# Altium footprint library Daxxn_Packages.PcbLib: 84 footprints (part 4 of 6)
Each footprint in its own frame and in the unit in brackets; x right, y up, seen from the top. Pads: shape width x height; smd on the part's side, far side on the other; paste and mask are expansions set on the pad; w line width, h text height; cw(c..) or ccw(c..) is an arc to the next point about the centre after c.
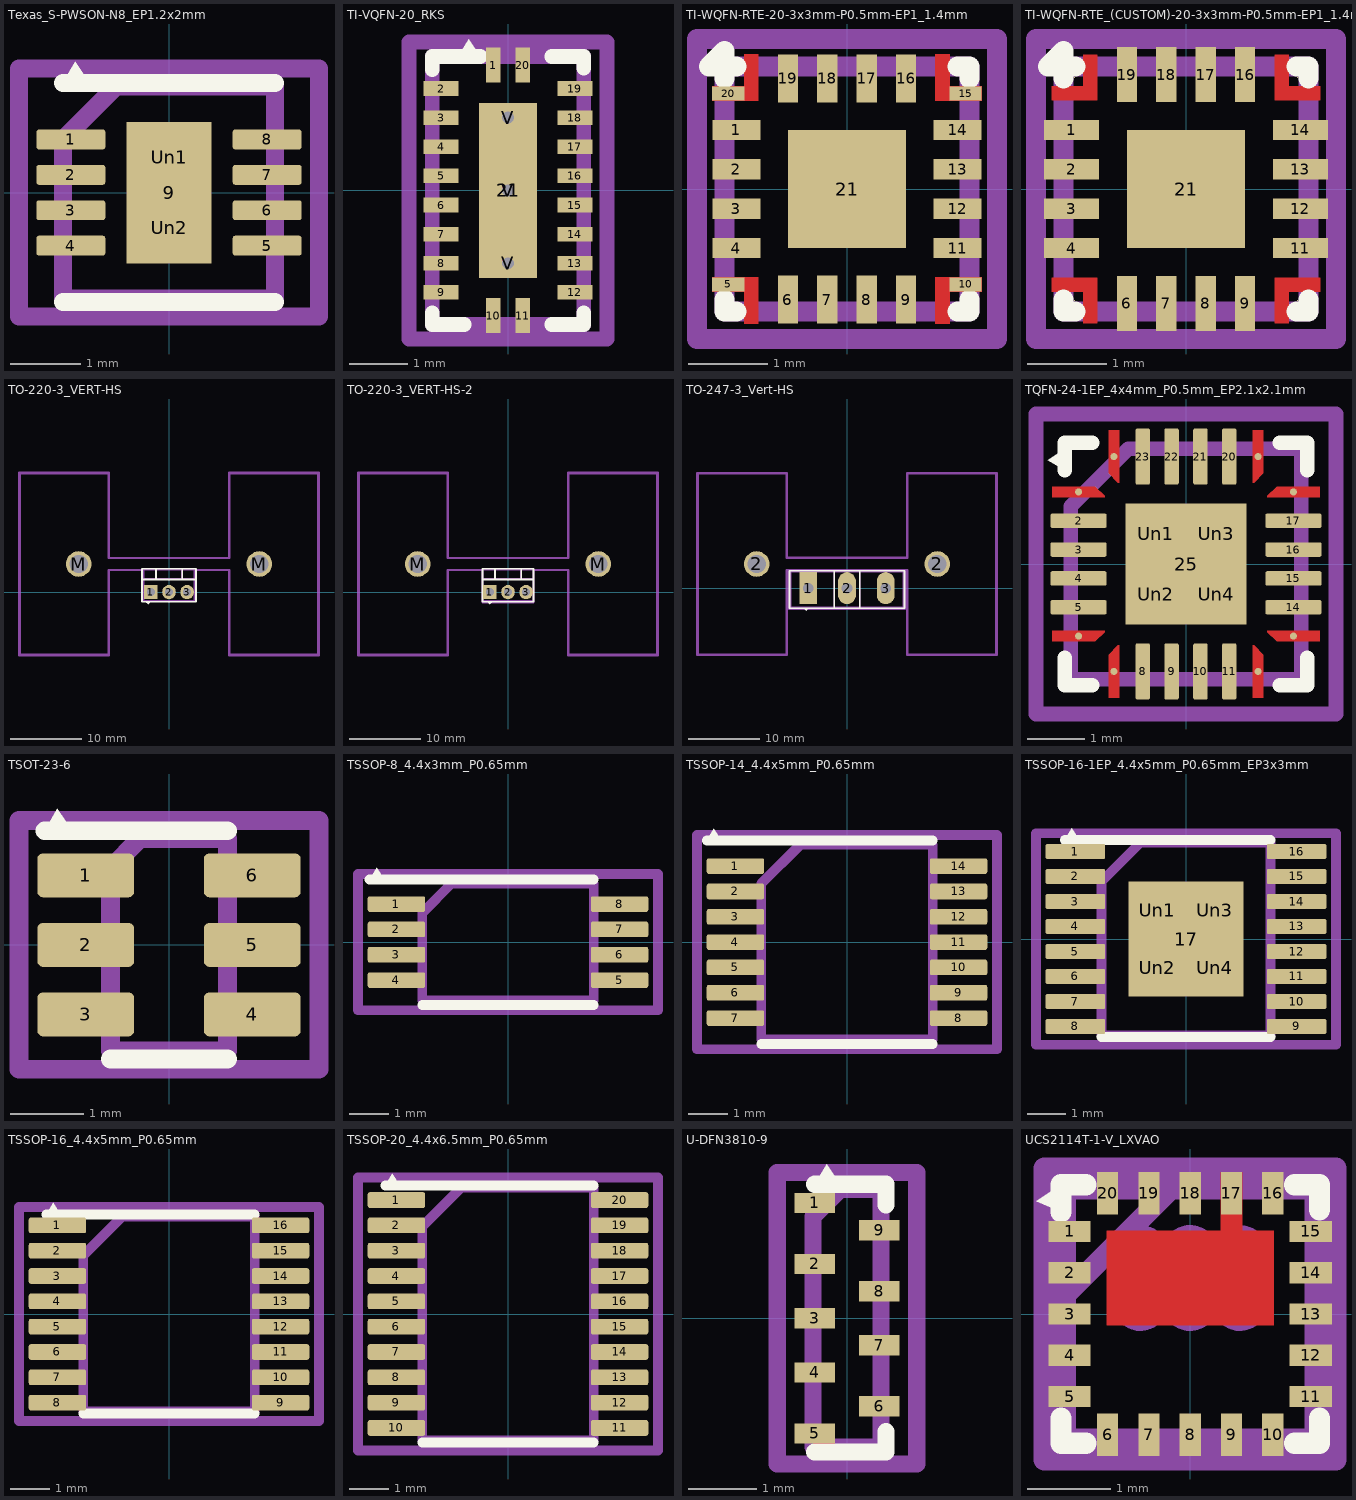
[diagram p3: the footprints below, top view; thin cyan lines are the x and y axes]

## Texas_S-PWSON-N8_EP1.2x2mm [mm]
pads (11):
  rrect25% 0.975x0.28 smd: 1(-1.388,0.75) 2(-1.388,0.25) 3(-1.388,-0.25) 4(-1.388,-0.75) 5(1.388,-0.75) 6(1.388,-0.25) 7(1.388,0.25) 8(1.388,0.75)
  rect 1.2x2 smd: 9(0,0)
  rrect25% 0.97x0.81 on Top Paste: Un1(0,0.5) Un2(0,-0.5)
F.SilkS:
  region: -1.125,1.55 -1.5,1.55 -1.325,1.85
  lines w0.254: -1.5,-1.55 1.5,-1.55 ; -1.5,1.55 1.5,1.55
F.CrtYd:
  lines w0.254: -2.12,-1.75 -2.12,1.75 2.12,1.75 2.12,-1.75 -2.12,-1.75
F.Fab:
  lines w0.254: -1.5,-1.5 -1.5,0.75 -0.75,1.5 1.5,1.5 1.5,-1.5 -1.5,-1.5
  text "'.Designator'" at -1.037,-0.235 h0.25

## TI-VQFN-20_RKS [mm]
pads (24):
  rect 0.25x0.6 smd: 1(-0.25,2.15) 10(-0.25,-2.15) 11(0.25,-2.15) 20(0.25,2.15)
  rect 0.6x0.25 smd: 2(-1.15,1.75) 3(-1.15,1.25) 4(-1.15,0.75) 5(-1.15,0.25) 6(-1.15,-0.25) 7(-1.15,-0.75) 8(-1.15,-1.25) 9(-1.15,-1.75) 12(1.15,-1.75) 13(1.15,-1.25) 14(1.15,-0.75) 15(1.15,-0.25) 16(1.15,0.25) 17(1.15,0.75) 18(1.15,1.25) 19(1.15,1.75)
  rect 1x3 smd: 21(0,0)
  round 0.5 hole 0.203: V(0,-1.25) V(0,0) V(0,1.25)
F.SilkS:
  region: -0.475,2.3 -0.85,2.3 -0.675,2.6
  lines w0.254: -1.3,-2.1 -1.3,-2.3 -0.75,-2.3 ; -1.3,2.075 -1.3,2.3 -0.475,2.3 ; 0.75,-2.3 1.3,-2.3 1.3,-2.1 ; 0.75,2.3 1.3,2.3 1.3,2.1
F.Paste:
  region: 0.4,0.2 -0.4,0.2 -0.4,1.2 0.4,1.2
  region: 0.4,-1.2 -0.4,-1.2 -0.4,-0.2 0.4,-0.2
  lines w0.254: -0.4,-1.2 -0.4,-0.2 0.4,-0.2 0.4,-1.2 -0.4,-1.2 ; -0.4,0.2 -0.4,1.2 0.4,1.2 0.4,0.2 -0.4,0.2
F.CrtYd:
  lines w0.254: -1.7,-2.55 -1.7,2.55 1.7,2.55 1.7,-2.55 -1.7,-2.55
F.Fab:
  lines w0.254: -1.3,-2.3 -1.3,2.3 1.3,2.3 1.3,-2.3 -1.3,-2.3
  text "'.Designator'" at -0.065,-1.037 h0.25

## TI-WQFN-RTE-20-3x3mm-P0.5mm-EP1_1.4mm [mil]
pads (21):
  rect 24x10 smd: 1(-55.12,29.53) 2(-55.12,9.84) 3(-55.12,-9.84) 4(-55.12,-29.53) 11(55.12,-29.53) 12(55.12,-9.84) 13(55.12,9.84) 14(55.12,29.53)
  rect 16x7 smd: 5(-59.24,-47.62) 10(59.12,-47.62) 15(59.12,47.62) 20(-59.24,47.62)
  rect 10x24 smd: 6(-29.53,-55.12) 7(-9.84,-55.12) 8(9.84,-55.12) 9(29.53,-55.12) 16(29.53,55.12) 17(9.84,55.12) 18(-9.84,55.12) 19(-29.53,55.12)
  rect 59x59 smd: 21(0,0)
F.Cu:
  region: -44.24,44.12 -67.24,44.12 -67.24,51.12 -51.24,51.12 -51.24,67.12 -44.24,67.12
  region: -44.24,-44.12 -44.24,-67.12 -51.24,-67.12 -51.24,-51.12 -67.24,-51.12 -67.24,-44.12
  region: 51.12,51.12 67.12,51.12 67.12,44.12 44.12,44.12 44.12,67.12 51.12,67.12
  region: 67.12,-51.12 51.12,-51.12 51.12,-67.12 44.12,-67.12 44.12,-44.12 67.12,-44.12
F.SilkS:
  lines w10: -61.02,-55.12 -61.02,-61.02 -55.12,-61.02 ; -61.02,55.12 -61.02,61.02 ; -55.12,61.02 -61.02,61.02 ; 55.12,-61.02 61.02,-61.02 61.02,-55.12 ; 55.12,61.02 61.02,61.02 61.02,55.12 ; -61.02,61.02 -68.9,61.02 -61.02,68.9 -61.02,61.02
F.Paste:
  region: 23.62,-23.62 -23.62,-23.62 -23.62,23.62 23.62,23.62
  region: -44.24,44.12 -67.24,44.12 -67.24,51.12 -51.24,51.12 -51.24,67.12 -44.24,67.12
  region: -44.24,-44.12 -44.24,-67.12 -51.24,-67.12 -51.24,-51.12 -67.24,-51.12 -67.24,-44.12
  region: 51.12,51.12 67.12,51.12 67.12,44.12 44.12,44.12 44.12,67.12 51.12,67.12
  region: 67.12,-51.12 51.12,-51.12 51.12,-67.12 44.12,-67.12 44.12,-44.12 67.12,-44.12
  lines w10: -23.62,-23.62 -23.62,23.62 23.62,23.62 23.62,-23.62 -23.62,-23.62
F.Mask:
  region: -44.24,44.12 -67.24,44.12 -67.24,51.12 -51.24,51.12 -51.24,67.12 -44.24,67.12
  region: -44.24,-44.12 -44.24,-67.12 -51.24,-67.12 -51.24,-51.12 -67.24,-51.12 -67.24,-44.12
  region: 51.12,51.12 67.12,51.12 67.12,44.12 44.12,44.12 44.12,67.12 51.12,67.12
  region: 67.12,-51.12 51.12,-51.12 51.12,-67.12 44.12,-67.12 44.12,-44.12 67.12,-44.12
F.CrtYd:
  lines w10: -74.8,-74.8 -74.8,74.8 74.8,74.8 74.8,-74.8 -74.8,-74.8
F.Fab:
  lines w10: -61,-61 -61,61 61,61 61,-61 -61,-61
  text "*" at -60.55,10.41 h39.37
  text "'.Designator'" at -40.81,6.49 h9.84

## TI-WQFN-RTE_(CUSTOM)-20-3x3mm-P0.5mm-EP1_1.4mm [mm]
pads (21):
  rect 0.7x0.254 smd: 1(-1.45,0.75) 2(-1.45,0.25) 3(-1.45,-0.25) 4(-1.45,-0.75) 11(1.45,-0.75) 12(1.45,-0.25) 13(1.45,0.25) 14(1.45,0.75)
  rect 0.001x0.001 smd: 5(-1.412,-1.412) 10(1.412,-1.412) 15(1.412,1.412) 20(-1.412,1.412)
  rect 0.254x0.7 smd: 6(-0.75,-1.45) 7(-0.25,-1.45) 8(0.25,-1.45) 9(0.75,-1.45) 16(0.75,1.45) 17(0.25,1.45) 18(-0.25,1.45) 19(-0.75,1.45)
  rect 1.499x1.499 smd: 21(0,0)
F.Cu:
  region: -1.125,-1.7 -1.3,-1.7 -1.3,-1.3 -1.7,-1.3 -1.7,-1.125 -1.125,-1.125
  region: 1.7,-1.3 1.3,-1.3 1.3,-1.7 1.125,-1.7 1.125,-1.125 1.7,-1.125
  region: 1.3,1.3 1.7,1.3 1.7,1.125 1.125,1.125 1.125,1.7 1.3,1.7
  region: -1.125,1.125 -1.7,1.125 -1.7,1.3 -1.3,1.3 -1.3,1.7 -1.125,1.7
F.SilkS:
  lines w0.254: -1.55,-1.4 -1.55,-1.55 -1.4,-1.55 ; -1.55,1.4 -1.55,1.55 ; -1.4,1.55 -1.55,1.55 ; 1.4,-1.55 1.55,-1.55 1.55,-1.4 ; 1.4,1.55 1.55,1.55 1.55,1.4 ; -1.55,1.55 -1.75,1.55 -1.55,1.75 -1.55,1.55
F.Paste:
  region: 0.6,-0.6 -0.6,-0.6 -0.6,0.6 0.6,0.6
  region: -1.125,-1.7 -1.3,-1.7 -1.3,-1.3 -1.7,-1.3 -1.7,-1.125 -1.125,-1.125
  region: -1.125,1.125 -1.7,1.125 -1.7,1.3 -1.3,1.3 -1.3,1.7 -1.125,1.7
  region: 1.7,-1.3 1.3,-1.3 1.3,-1.7 1.125,-1.7 1.125,-1.125 1.7,-1.125
  region: 1.3,1.3 1.7,1.3 1.7,1.125 1.125,1.125 1.125,1.7 1.3,1.7
  lines w0.254: -0.6,-0.6 -0.6,0.6 0.6,0.6 0.6,-0.6 -0.6,-0.6
F.Mask:
  region: -1.125,-1.7 -1.3,-1.7 -1.3,-1.3 -1.7,-1.3 -1.7,-1.125 -1.125,-1.125
  region: -1.125,1.125 -1.7,1.125 -1.7,1.3 -1.3,1.3 -1.3,1.7 -1.125,1.7
  region: 1.7,-1.3 1.3,-1.3 1.3,-1.7 1.125,-1.7 1.125,-1.125 1.7,-1.125
  region: 1.3,1.3 1.7,1.3 1.7,1.125 1.125,1.125 1.125,1.7 1.3,1.7
F.CrtYd:
  lines w0.254: -1.9,-1.9 -1.9,1.9 1.9,1.9 1.9,-1.9 -1.9,-1.9
F.Fab:
  lines w0.254: -1.549,-1.549 -1.549,1.549 1.549,1.549 1.549,-1.549 -1.549,-1.549
  text "'.Designator'" at -1.037,0.165 h0.25

## TO-220-3_VERT-HS [mm]
pads (5):
  rect 1.905x2 hole 1.1: 1(-2.54,0)
  rrect100% 1.905x2 hole 1.1: 2(0,0) 3(2.54,0)
  round 3.6 hole 2.6: M(-12.7,3.95) M(12.7,3.95)
F.SilkS:
  region: -2.95,-1.7 -3.25,-1.4 -2.65,-1.4
  lines w0.254: -3.8,1.76 3.8,1.76 ; -1.85,1.76 -1.85,3.27 ; 1.851,1.76 1.851,3.27 ; -3.8,-1.371 -3.8,3.27 3.8,3.27 3.8,-1.371 -3.8,-1.371
F.CrtYd:
  lines w0.254: -21.1,-8.9 -21.1,16.8 -8.4,16.8 -8.4,4.8 8.4,4.8 8.4,16.8 21.1,16.8 21.1,-8.9 8.4,-8.9 8.4,3.1 3.7,3.1 3.7,-1.3 -3.7,-1.3 -3.7,3.1 -8.4,3.1 -8.4,-8.9 -21.1,-8.9
F.Fab:
  lines w0.254: -3.6,1.88 3.6,1.88 ; -3.6,3.15 -3.6,-1.25 3.6,-1.25 3.6,3.15 ; -1.85,1.88 -1.85,3.15 ; 1.85,1.88 1.85,3.15 ; -20.95,-8.75 -20.95,16.65 -8.5,16.65 -8.5,4.75 8.5,4.75 8.5,16.65 20.95,16.65 20.95,-8.75 8.5,-8.75 8.5,3.15 -8.5,3.15 -8.5,-8.75 -20.95,-8.75
  text "'.Designator'" at -2.073,3.63 h0.5

## TO-220-3_VERT-HS-2 [mm]
pads (5):
  rect 1.905x2 hole 1.1: 1(-2.54,0)
  rrect100% 1.905x2 hole 1.1: 2(0,0) 3(2.54,0)
  round 3.6 hole 2.6: M(-12.7,3.95) M(12.7,3.95)
F.SilkS:
  region: -2.55,-1.7 -2.85,-1.4 -2.25,-1.4
  lines w0.254: -3.6,1.76 3.6,1.76 ; -1.85,1.76 -1.85,3.27 ; 1.851,1.76 1.851,3.27 ; -3.6,-1.371 -3.6,3.27 3.6,3.27 3.6,-1.371 -3.6,-1.371
F.CrtYd:
  lines w0.254: -21.1,-8.9 -21.1,16.8 -8.4,16.8 -8.4,4.8 8.4,4.8 8.4,16.8 21.1,16.8 21.1,-8.9 8.4,-8.9 8.4,3.1 3.6,3.1 3.6,-1.51 -3.6,-1.51 -3.6,3.1 -8.4,3.1 -8.4,-8.9 -21.1,-8.9
F.Fab:
  lines w0.254: -3.6,1.88 3.6,1.88 ; -3.6,3.15 -3.6,-1.25 3.6,-1.25 3.6,3.15 ; -1.85,1.88 -1.85,3.15 ; 1.85,1.88 1.85,3.15 ; -20.95,-8.75 -20.95,16.65 -8.5,16.65 -8.5,4.75 8.5,4.75 8.5,16.65 20.95,16.65 20.95,-8.75 8.5,-8.75 8.5,3.15 -8.5,3.15 -8.5,-8.75 -20.95,-8.75
  text "'.Designator'" at -2.073,3.78 h0.5

## TO-247-3_Vert-HS [mm]
pads (5):
  rect 2.5x4.5 hole 1.5: 1(-5.45,0)
  round 3.6 hole 2.6: 2(-12.7,3.4) 2(12.7,3.4)
  rrect100% 2.5x4.5 hole 1.5: 2(0,0) 3(5.45,0)
F.SilkS:
  region: -5.75,-3.15 -6.05,-2.85 -5.45,-2.85
  lines w0.254: -1.804,-2.82 -1.804,2.451 ; 1.805,-2.82 1.805,2.451 ; -8.07,-2.82 -8.07,2.451 8.07,2.451 8.07,-2.82 -8.07,-2.82
F.CrtYd:
  lines w0.254: -21.1,-9.4 -21.1,16.2 -8.4,16.2 -8.4,4.3 8.4,4.3 8.4,16.2 21.1,16.2 21.1,-9.4 8.4,-9.4 8.4,2.59 8.2,2.59 8.2,-2.95 -8.2,-2.95 -8.2,2.59 -8.4,2.59 -8.4,-9.4 -21.1,-9.4
F.Fab:
  lines w0.254: -1.805,-2.7 -1.805,2.33 ; 1.805,-2.7 1.805,2.33 ; -20.95,-9.3 -20.95,16.1 -8.5,16.1 -8.5,4.2 8.5,4.2 8.5,16.1 20.95,16.1 20.95,-9.3 8.5,-9.3 8.5,2.6 -8.5,2.6 -8.5,-9.3 -20.95,-9.3 ; -7.95,-2.7 -7.95,2.33 7.95,2.33 7.95,-2.7 -7.95,-2.7
  text "'.Designator'" at -2.073,3.18 h0.5

## TQFN-24-1EP_4x4mm_P0.5mm_EP2.1x2.1mm [mm]
pads (29):
  round 0.123 smd: 1(-1.863,1.25) 6(-1.863,-1.25) 7(-1.25,-1.863) 12(1.25,-1.863) 13(1.863,-1.25) 18(1.863,1.25) 19(1.25,1.863) 24(-1.25,1.863)
  rrect25% 0.975x0.25 smd: 2(-1.863,0.75) 3(-1.863,0.25) 4(-1.863,-0.25) 5(-1.863,-0.75) 14(1.863,-0.75) 15(1.863,-0.25) 16(1.863,0.25) 17(1.863,0.75)
  rrect25% 0.25x0.975 smd: 8(-0.75,-1.863) 9(-0.25,-1.863) 10(0.25,-1.863) 11(0.75,-1.863) 20(0.75,1.863) 21(0.25,1.863) 22(-0.25,1.863) 23(-0.75,1.863)
  rect 2.1x2.1 smd: 25(0,0)
  rrect25% 0.85x0.85 on Top Paste: Un1(-0.525,0.525) Un2(-0.525,-0.525) Un3(0.525,0.525) Un4(0.525,-0.525)
F.Cu:
  region: -1.41,1.181 -1.41,1.16 -2.315,1.16 -2.315,1.34 -1.569,1.34
  region: -1.41,-1.181 -1.569,-1.34 -2.315,-1.34 -2.315,-1.16 -1.41,-1.16
  region: -1.16,-2.315 -1.34,-2.315 -1.34,-1.569 -1.181,-1.41 -1.16,-1.41
  region: 1.34,-1.569 1.34,-2.315 1.16,-2.315 1.16,-1.41 1.181,-1.41
  region: 2.315,-1.34 1.569,-1.34 1.41,-1.181 1.41,-1.16 2.315,-1.16
  region: 2.315,1.16 1.41,1.16 1.41,1.181 1.569,1.34 2.315,1.34
  region: 1.34,1.569 1.181,1.41 1.16,1.41 1.16,2.315 1.34,2.315
  region: -1.16,1.41 -1.181,1.41 -1.34,1.569 -1.34,2.315 -1.16,2.315
F.SilkS:
  region: -2.1,1.625 -2.4,1.8 -2.1,2
  lines w0.254: -2.1,-1.625 -2.1,-2.1 -1.625,-2.1 ; -2.1,1.625 -2.1,2.1 -1.625,2.1 ; 1.625,-2.1 2.1,-2.1 2.1,-1.625 ; 1.625,2.1 2.1,2.1 2.1,1.625
F.Paste:
  region: -1.41,1.181 -1.41,1.16 -2.315,1.16 -2.315,1.34 -1.569,1.34
  region: -1.41,-1.181 -1.569,-1.34 -2.315,-1.34 -2.315,-1.16 -1.41,-1.16
  region: -1.16,-2.315 -1.34,-2.315 -1.34,-1.569 -1.181,-1.41 -1.16,-1.41
  region: 1.34,-1.569 1.34,-2.315 1.16,-2.315 1.16,-1.41 1.181,-1.41
  region: 2.315,-1.34 1.569,-1.34 1.41,-1.181 1.41,-1.16 2.315,-1.16
  region: 2.315,1.16 1.41,1.16 1.41,1.181 1.569,1.34 2.315,1.34
  region: 1.34,1.569 1.181,1.41 1.16,1.41 1.16,2.315 1.34,2.315
  region: -1.16,1.41 -1.181,1.41 -1.34,1.569 -1.34,2.315 -1.16,2.315
F.Mask:
  region: -1.41,1.181 -1.41,1.16 -2.315,1.16 -2.315,1.34 -1.569,1.34
  region: -1.41,-1.181 -1.569,-1.34 -2.315,-1.34 -2.315,-1.16 -1.41,-1.16
  region: -1.16,-2.315 -1.34,-2.315 -1.34,-1.569 -1.181,-1.41 -1.16,-1.41
  region: 1.34,-1.569 1.34,-2.315 1.16,-2.315 1.16,-1.41 1.181,-1.41
  region: 2.315,-1.34 1.569,-1.34 1.41,-1.181 1.41,-1.16 2.315,-1.16
  region: 2.315,1.16 1.41,1.16 1.41,1.181 1.569,1.34 2.315,1.34
  region: 1.34,1.569 1.181,1.41 1.16,1.41 1.16,2.315 1.34,2.315
  region: -1.16,1.41 -1.181,1.41 -1.34,1.569 -1.34,2.315 -1.16,2.315
F.CrtYd:
  lines w0.254: -2.6,-2.6 -2.6,2.6 2.6,2.6 2.6,-2.6 -2.6,-2.6
F.Fab:
  lines w0.254: -2,-2 -2,1 -1,2 2,2 2,-2 -2,-2
  text "'.Designator'" at -1.037,0.065 h0.25

## TSOT-23-6 [mm]
pads (6):
  rrect25% 1.325x0.6 smd: 1(-1.138,0.95) 2(-1.138,0) 3(-1.138,-0.95) 4(1.138,-0.95) 5(1.138,0) 6(1.138,0.95)
F.SilkS:
  region: -1.325,1.56 -1.7,1.56 -1.525,1.86
  lines w0.254: -1.7,1.56 0,1.56 0.8,1.56 ; -0.8,-1.56 0,-1.56 0.8,-1.56
F.CrtYd:
  lines w0.254: -2.05,-1.7 -2.05,1.7 2.05,1.7 2.05,-1.7 -2.05,-1.7
F.Fab:
  lines w0.254: -0.8,-1.45 -0.8,1.05 -0.4,1.45 0.8,1.45 0.8,-1.45 -0.8,-1.45
  text "'.Designator'" at -1.034,0.017 h0.25

## TSSOP-8_4.4x3mm_P0.65mm [mm]
pads (8):
  rrect25% 1.475x0.4 smd: 1(-2.863,0.975) 2(-2.863,0.325) 3(-2.863,-0.325) 4(-2.863,-0.975) 5(2.863,-0.975) 6(2.863,-0.325) 7(2.863,0.325) 8(2.863,0.975)
F.SilkS:
  region: -3.175,1.61 -3.55,1.61 -3.375,1.91
  lines w0.254: -3.55,1.61 0,1.61 2.2,1.61 ; -2.2,-1.61 0,-1.61 2.2,-1.61
F.CrtYd:
  lines w0.254: -3.85,-1.75 -3.85,1.75 3.85,1.75 3.85,-1.75 -3.85,-1.75
F.Fab:
  lines w0.254: -2.2,-1.5 -2.2,0.75 -1.45,1.5 2.2,1.5 2.2,-1.5 -2.2,-1.5
  text "'.Designator'" at -1.037,0.015 h0.25

## TSSOP-14_4.4x5mm_P0.65mm [mm]
pads (14):
  rrect25% 1.475x0.4 smd: 1(-2.863,1.95) 2(-2.863,1.3) 3(-2.863,0.65) 4(-2.863,0) 5(-2.863,-0.65) 6(-2.863,-1.3) 7(-2.863,-1.95) 8(2.863,-1.95) 9(2.863,-1.3) 10(2.863,-0.65) 11(2.863,0) 12(2.863,0.65) 13(2.863,1.3) 14(2.863,1.95)
F.SilkS:
  region: -3.225,2.61 -3.6,2.61 -3.425,2.91
  lines w0.254: -3.6,2.61 0,2.61 2.2,2.61 ; -2.2,-2.61 0,-2.61 2.2,-2.61
F.CrtYd:
  lines w0.254: -3.85,-2.75 -3.85,2.75 3.85,2.75 3.85,-2.75 -3.85,-2.75
F.Fab:
  lines w0.254: -2.2,-2.5 -2.2,1.5 -1.2,2.5 2.2,2.5 2.2,-2.5 -2.2,-2.5
  text "'.Designator'" at -1.037,0.065 h0.25

## TSSOP-16-1EP_4.4x5mm_P0.65mm_EP3x3mm [mm]
pads (21):
  rrect25% 1.55x0.4 smd: 1(-2.875,2.275) 2(-2.875,1.625) 3(-2.875,0.975) 4(-2.875,0.325) 5(-2.875,-0.325) 6(-2.875,-0.975) 7(-2.875,-1.625) 8(-2.875,-2.275) 9(2.875,-2.275) 10(2.875,-1.625) 11(2.875,-0.975) 12(2.875,-0.325) 13(2.875,0.325) 14(2.875,0.975) 15(2.875,1.625) 16(2.875,2.275)
  rect 3x3 smd: 17(0,0)
  rrect21% 1.21x1.21 on Top Paste: Un1(-0.75,0.75) Un2(-0.75,-0.75) Un3(0.75,0.75) Un4(0.75,-0.75)
F.SilkS:
  region: -2.775,2.575 -3.15,2.575 -2.975,2.875
  lines w0.254: -3.15,2.575 2.2,2.575 ; -2.2,-2.55 2.2,-2.55
F.CrtYd:
  lines w0.254: -3.9,-2.75 -3.9,2.75 3.9,2.75 3.9,-2.75 -3.9,-2.75
F.Fab:
  lines w0.254: -2.2,-2.5 -2.2,1.5 -1.2,2.5 2.2,2.5 2.2,-2.5 -2.2,-2.5
  text "'.Designator'" at -1.037,-0.235 h0.25

## TSSOP-16_4.4x5mm_P0.65mm [mm]
pads (16):
  rrect25% 1.475x0.4 smd: 1(-2.863,2.275) 2(-2.863,1.625) 3(-2.863,0.975) 4(-2.863,0.325) 5(-2.863,-0.325) 6(-2.863,-0.975) 7(-2.863,-1.625) 8(-2.863,-2.275) 9(2.863,-2.275) 10(2.863,-1.625) 11(2.863,-0.975) 12(2.863,-0.325) 13(2.863,0.325) 14(2.863,0.975) 15(2.863,1.625) 16(2.863,2.275)
F.SilkS:
  region: -2.775,2.55 -3.15,2.55 -2.975,2.85
  lines w0.254: -3.15,2.55 2.2,2.55 ; -2.2,-2.55 2.2,-2.55
F.CrtYd:
  lines w0.254: -3.85,-2.75 -3.85,2.75 3.85,2.75 3.85,-2.75 -3.85,-2.75
F.Fab:
  lines w0.254: -2.2,-2.5 -2.2,1.5 -1.2,2.5 2.2,2.5 2.2,-2.5 -2.2,-2.5
  text "'.Designator'" at -0.015,-1.037 h0.25

## TSSOP-20_4.4x6.5mm_P0.65mm [mm]
pads (20):
  rrect25% 1.475x0.4 smd: 1(-2.863,2.925) 2(-2.863,2.275) 3(-2.863,1.625) 4(-2.863,0.975) 5(-2.863,0.325) 6(-2.863,-0.325) 7(-2.863,-0.975) 8(-2.863,-1.625) 9(-2.863,-2.275) 10(-2.863,-2.925) 11(2.863,-2.925) 12(2.863,-2.275) 13(2.863,-1.625) 14(2.863,-0.975) 15(2.863,-0.325) 16(2.863,0.325) 17(2.863,0.975) 18(2.863,1.625) 19(2.863,2.275) 20(2.863,2.925)
F.SilkS:
  region: -2.775,3.3 -3.15,3.3 -2.975,3.6
  lines w0.254: -3.15,3.3 2.2,3.3 ; -2.2,-3.3 2.2,-3.3
F.CrtYd:
  lines w0.254: -3.85,-3.5 -3.85,3.5 3.85,3.5 3.85,-3.5 -3.85,-3.5
F.Fab:
  lines w0.254: -2.2,-3.25 -2.2,2.25 -1.2,3.25 2.2,3.25 2.2,-3.25 -2.2,-3.25
  text "'.Designator'" at -0.165,-1.037 h0.25

## U-DFN3810-9 [mm]
pads (9):
  rect 0.6x0.3 smd: 1(-0.475,1.7) 2(-0.475,0.8) 3(-0.475,0) 4(-0.475,-0.8) 5(-0.475,-1.7) 6(0.475,-1.3) 7(0.475,-0.4) 8(0.475,0.4) 9(0.475,1.3)
F.SilkS:
  region: -0.1,1.975 -0.475,1.975 -0.3,2.275
  lines w0.254: -0.475,-1.975 0.575,-1.975 0.575,-1.675 ; -0.475,1.975 0.575,1.975 0.575,1.675
F.CrtYd:
  lines w0.254: -1.03,-2.15 -1.03,2.15 1.03,2.15 1.03,-2.15 -1.03,-2.15
F.Fab:
  lines w0.254: -0.5,-1.9 -0.5,1.5 -0.1,1.9 0.5,1.9 0.5,-1.9 -0.5,-1.9
  text "'.Designator'" at 0.023,-1.024 h0.25

## UCS2114T-1-V_LXVAO [mil]
pads (20):
  rect 20x10 smd: 1(-57,39) 2(-57,19.5) 3(-57,0) 4(-57,-19.5) 5(-57,-39) 11(57,-39) 12(57,-19.5) 13(57,0) 14(57,19.5) 15(57,39)
  rect 10x20 smd: 6(-39,-57) 7(-19.5,-57) 8(0,-57) 9(19.5,-57) 10(39,-57) 16(39,57) 17(19.5,57) 18(0,57) 19(-19.5,57) 20(-39,57)
F.Cu:
  region: 24.5,39.25 39.5,39.25 39.5,-5.25 -39.5,-5.25 -39.5,39.25 14.5,39.25 14.5,67 24.5,67
F.SilkS:
  region: -61.02,48.23 -72.83,53.15 -61.02,61.02
  lines w10: -61.02,-49.21 -61.02,-61.02 -49.21,-61.02 ; -61.02,48.23 -61.02,61.02 -49.21,61.02 ; 49.21,-61.02 61.02,-61.02 61.02,-49.21 ; 49.21,61.02 61.02,61.02 61.02,49.21
F.Mask:
  region: 24.5,39.25 39.5,39.25 39.5,-5.25 -39.5,-5.25 -39.5,39.25 14.5,39.25 14.5,67 24.5,67
F.CrtYd:
  lines w10: -68.9,-68.9 -68.9,68.9 68.9,68.9 68.9,-68.9 -68.9,-68.9
F.Fab:
  lines w10: -59,9 -9,59 ; -59,-59 -59,59 59,59 59,-59 -59,-59
  text "'.Designator'" at -40.81,-2.37 h9.84
Eco1.User:
  circle w10: c-23.5,28.75 r8.25
  circle w10: c-23.5,5.25 r8.25
  circle w10: c0,28.75 r8.25
  circle w10: c0,5.25 r8.25
  circle w10: c23.5,28.75 r8.25
  circle w10: c23.5,5.25 r8.25